# Altium footprint library CYPCBLIB.PcbLib: 185 footprints (part 5 of 12)
Each footprint in its own frame and in the unit in brackets; x right, y up, seen from the top. Pads: shape width x height; smd on the part's side, far side on the other; paste and mask are expansions set on the pad; w line width, h text height; cw(c..) or ccw(c..) is an arc to the next point about the centre after c.
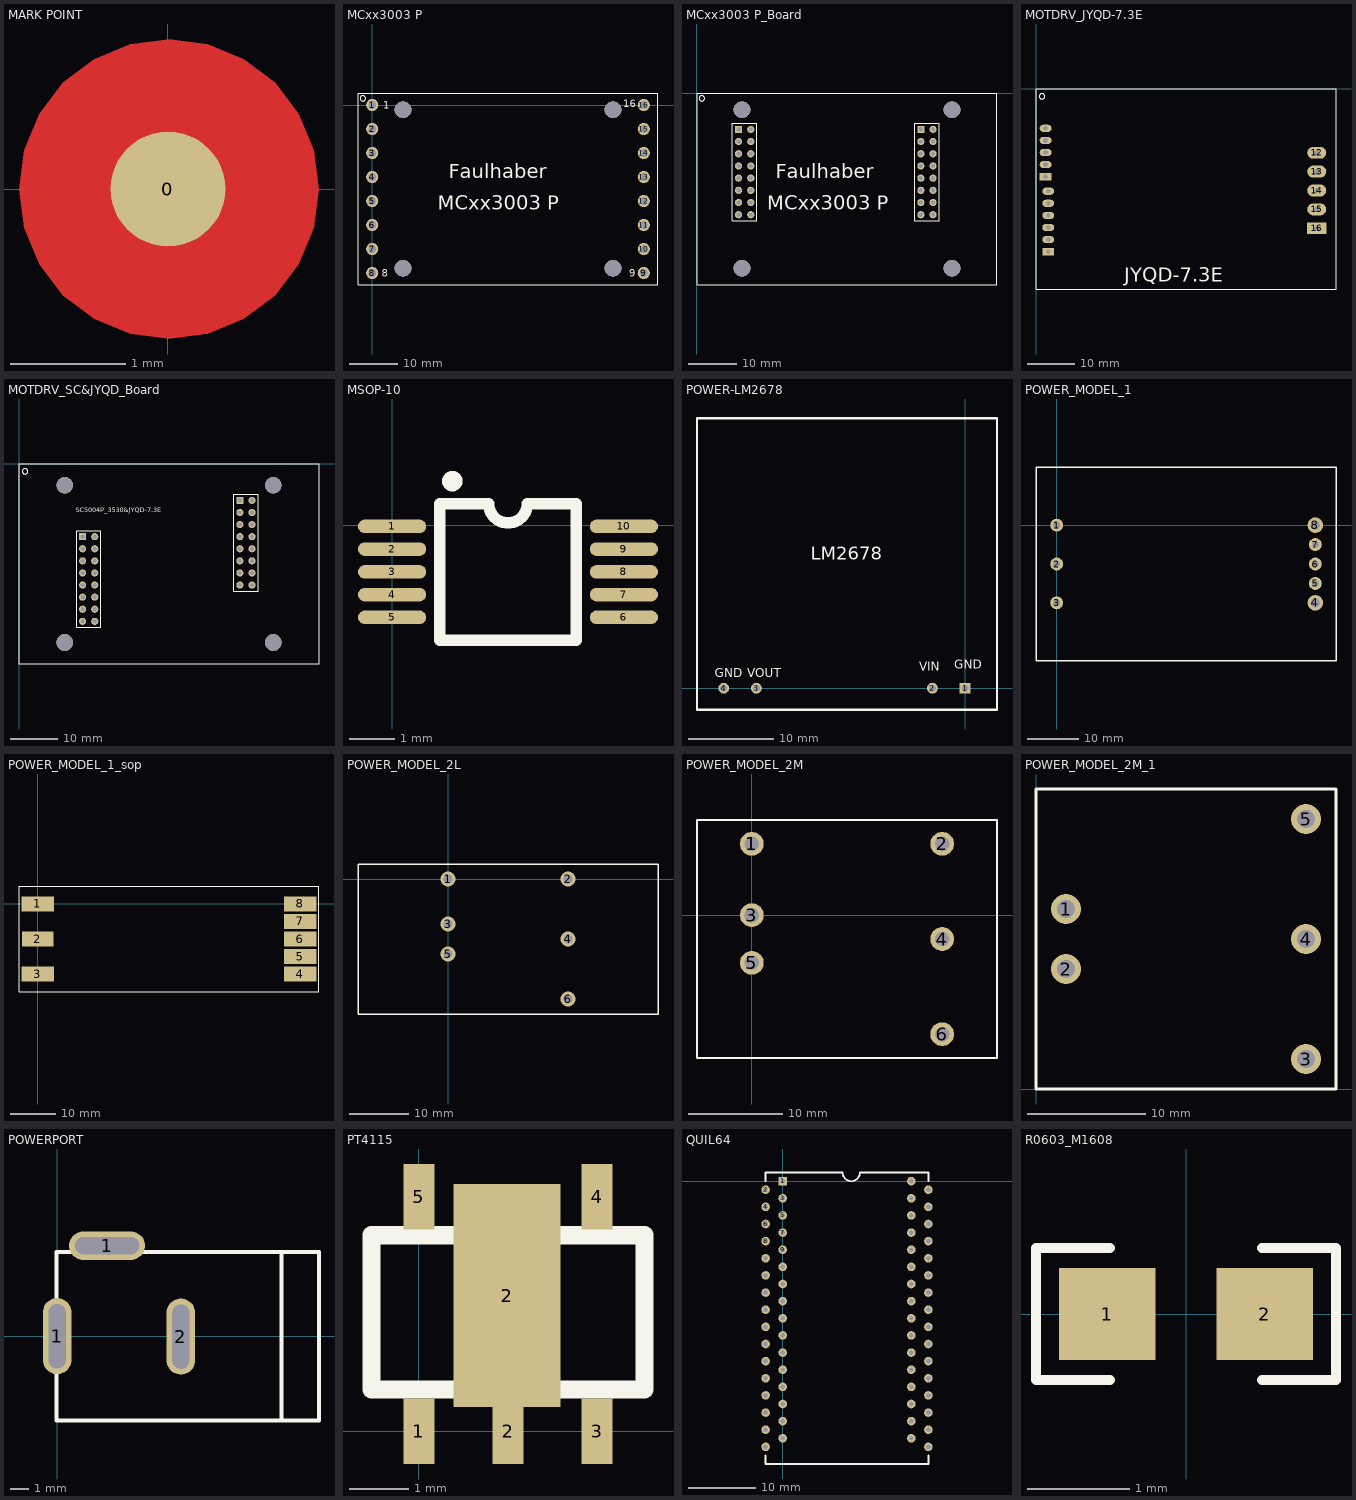
[diagram p4: the footprints below, top view; thin cyan lines are the x and y axes]

## MARK POINT [mm]
pads (1):
  round 1 smd mask+0.7: 0(0,0)
TopLayer:
  pour cut-out: 0.009,-1.304 -0.329,-1.26 -0.643,-1.13 -0.913,-0.922 -1.121,-0.652 -1.251,-0.338 -1.295,0 -1.251,0.338 -1.121,0.652 -0.913,0.922 -0.643,1.13 -0.329,1.26 0.009,1.304 0.346,1.26 0.661,1.13 0.931,0.922 1.138,0.652 1.269,0.338 1.313,0 1.269,-0.338 1.138,-0.652 0.931,-0.922 0.661,-1.13 0.346,-1.26

## MCxx3003 P [mm]
pads (16):
  round 2.54 hole 1.6: 1(0,0) 2(0,-5) 3(0,-10) 4(0,-15) 5(0,-20) 6(0,-25) 7(0,-30) 8(0,-35) 9(56.6,-35) 10(56.6,-30) 11(56.6,-25) 12(56.6,-20) 13(56.6,-15) 14(56.6,-10) 15(56.6,-5) 16(56.6,0)
via 6.4,-1 diameter 3.5 hole 3.5
via 6.4,-34 diameter 3.5 hole 3.5
via 50.2,-34 diameter 3.5 hole 3.5
via 50.2,-1 diameter 3.5 hole 3.5
TopOverlay:
  circle w0.254: c-1.934,1.384 r0.568
  lines w0.254: -2.95,-37.4 59.55,-37.4 59.55,2.4 -2.95,2.4 -2.95,-37.4
  text "Faulhaber" at 16.002,-15.24 h3
  text "MCxx3003 P" at 13.716,-21.844 h3
  text "8" at 2.032,-35.814 h1.5
  text "1" at 2.286,-0.762 h1.5
  text "16" at 52.324,-0.508 h1.5
  text "9" at 53.594,-35.814 h1.5
BottomOverlay:
  circle w0.254: c-1.934,1.384 r0.568

## MCxx3003 P_Board [mm]
pads (32):
  rect 1.5x1.5 hole 0.9: 1(8.666,-7.477) 17(46.639,-7.477)
  round 1.5 hole 0.9: 2(11.206,-7.477) 3(8.666,-10.017) 4(11.206,-10.017) 5(8.666,-12.557) 6(11.206,-12.557) 7(8.666,-15.097) 8(11.206,-15.097) 9(8.666,-17.637) 10(11.206,-17.637) 11(8.666,-20.177) 12(11.206,-20.177) 13(8.666,-22.717) 14(11.206,-22.717) 15(8.666,-25.257) 16(11.206,-25.257) 18(49.179,-7.477) 19(46.639,-10.017) 20(49.179,-10.017) 21(46.639,-12.557) 22(49.179,-12.557) 23(46.639,-15.097) 24(49.179,-15.097) 25(46.639,-17.637) 26(49.179,-17.637) 27(46.639,-20.177) 28(49.179,-20.177) 29(46.639,-22.717) 30(49.179,-22.717) 31(46.639,-25.257) 32(49.179,-25.257)
via 9.351,-3.397 diameter 3.5 hole 3.5
via 9.351,-36.397 diameter 3.5 hole 3.5
via 53.151,-36.397 diameter 3.5 hole 3.5
via 53.151,-3.397 diameter 3.5 hole 3.5
TopOverlay:
  circle w0.254: c1.016,-1.016 r0.568
  lines w0.2: 7.396,-26.527 12.476,-26.527 12.476,-6.207 7.396,-6.207 7.396,-26.527 ; 45.369,-26.527 50.449,-26.527 50.449,-6.207 45.369,-6.207 45.369,-26.527
  lines w0.254: 0.001,-39.797 0.001,0.003 62.501,0.003 62.501,-39.797 0.001,-39.797
  text "Faulhaber" at 16.413,-17.637 h3
  text "MCxx3003 P" at 14.635,-24.241 h3

## MOTDRV_JYQD-7.3E [mm]
pads (16):
  rect 2.5x1.5 hole 0.991: 1(2.574,-34.163) 7(2.015,-18.415)
  oval 2.5x1.5 hole 0.991: 2(2.574,-31.623) 3(2.574,-29.083) 4(2.574,-26.543) 5(2.574,-24.003) 6(2.574,-21.463) 8(2.015,-15.875) 9(2.015,-13.335) 10(2.015,-10.795) 11(2.015,-8.255)
  oval 4x2.5 hole 1.143: 12(58.962,-13.395) 13(58.962,-17.355) 14(58.962,-21.315) 15(58.962,-25.275)
  rect 4x2.5 hole 1.143: 16(58.962,-29.235)
TopOverlay:
  circle w0.254: c1.266,-1.556 r0.568
  lines w0.254: 63,-0.032 63,-42 0,-42 0,0 63,0
  text "JYQD-7.3E" at 18.525,-40.513 h3
BottomOverlay:
  circle w0.254: c1.266,-1.556 r0.568

## MOTDRV_SC&JYQD_Board [mm]
pads (32):
  rect 1.5x1.5 hole 0.9: 1(13.36,-15.272) 17(46.38,-7.652)
  round 1.5 hole 0.9: 2(15.9,-15.272) 3(13.36,-17.812) 4(15.9,-17.812) 5(13.36,-20.352) 6(15.9,-20.352) 7(13.36,-22.892) 8(15.9,-22.892) 9(13.36,-25.432) 10(15.9,-25.432) 11(13.36,-27.972) 12(15.9,-27.972) 13(13.36,-30.512) 14(15.9,-30.512) 15(13.36,-33.052) 16(15.9,-33.052) 18(48.92,-7.652) 19(46.38,-10.192) 20(48.92,-10.192) 21(46.38,-12.732) 22(48.92,-12.732) 23(46.38,-15.272) 24(48.92,-15.272) 25(46.38,-17.812) 26(48.92,-17.812) 27(46.38,-20.352) 28(48.92,-20.352) 29(46.38,-22.892) 30(48.92,-22.892) 31(46.38,-25.432) 32(48.92,-25.432)
via 9.6,-4.5 diameter 3.5 hole 3.5
via 9.6,-37.5 diameter 3.5 hole 3.5
via 53.4,-37.5 diameter 3.5 hole 3.5
via 53.4,-4.5 diameter 3.5 hole 3.5
TopOverlay:
  circle w0.254: c1.266,-1.556 r0.568
  lines w0.2: 12.09,-34.322 17.17,-34.322 17.17,-14.002 12.09,-14.002 12.09,-34.322 ; 45.11,-26.702 45.11,-6.382 50.19,-6.382 50.19,-26.702 45.11,-26.702
  lines w0.254: 0,-42.02 0,0 63,0 63,-42 0,-42
  text "SC5004P_3530&JYQD-7.3E" at 11.934,-10.192 h1

## MSOP-10 [mm]
pads (10):
  oval 1.5x0.3 smd: 1(0,-0.025) 2(0,-0.525) 3(0,-1.025) 4(0,-1.525) 5(0,-2.025) 6(5.1,-2.025) 7(5.1,-1.525) 8(5.1,-1.025) 9(5.1,-0.525) 10(5.1,-0.025)
TopOverlay:
  circle w0.25: c1.324,0.971 r0.1
  lines w0.254: 1.05,-2.525 4.05,-2.525 4.05,0.475 2.975,0.475 cw(c2.55,0.475) 2.125,0.475 1.05,0.475 1.05,-2.525

## POWER-LM2678 [mil]
pads (4):
  rect 50x50 hole 32: 1(0,0)
  round 50 hole 32: 2(-150,0) 3(-958.66,0) 4(-1108.66,0)
TopOverlay:
  lines w10: -1231.34,-98.58 -1231.34,1240 146.61,1240 146.61,-98.58 -1231.34,-98.58
  text "LM2678" at -710,590 h60
  text "GND" at -50,90 h40.31
  text "VIN" at -210,80 h40.31
  text "GND" at -1150,50 h40.31
  text "VOUT" at -1000,50 h40.31

## POWER_MODEL_1 [mil]
pads (8):
  round 100 hole 55: 1(0,0) 2(0,-300) 3(0,-600) 5(2000,-450) 6(2000,-300) 7(2000,-150)
  round 120 hole 75: 4(2000,-600) 8(2000,0)
TopOverlay:
  lines w10: -160,-1050 -160,450 2160,450 2160,-1050 -160,-1050

## POWER_MODEL_1_sop [mil]
pads (8):
  rect 280x130 smd: 1(0,0) 3(0,-600) 4(2250,-600) 5(2250,-450) 6(2250,-300) 7(2250,-150) 8(2250,0)
  rect 270x130 smd: 2(0,-300)
TopOverlay:
  lines w10: -160,-750 -160,150 2410,150 2410,-750 -160,-750

## POWER_MODEL_2L [mil]
pads (6):
  round 100 hole 60: 1(0,0) 2(800,0) 3(0,-300) 4(800,-400) 5(0,-500) 6(800,-800)
TopOverlay:
  lines w10: -600,-900 1400,-900 1400,100 -600,100 -600,-900

## POWER_MODEL_2M [mil]
pads (6):
  round 100 hole 60: 1(0,300) 2(800,300) 3(0,0) 4(800,-100) 5(0,-200) 6(800,-500)
TopOverlay:
  lines w10: -230,-600 1030,-600 1030,400 -230,400 -230,-600

## POWER_MODEL_2M_1 [mil]
pads (5):
  round 100 hole 60: 1(100,600) 2(100,400) 3(900,100) 4(900,500) 5(900,900)
TopOverlay:
  lines w10: 0,0 0,1000 1000,1000 1000,0 0,0

## POWERPORT [mil]
pads (3):
  oval 60x160 hole 36 slot 135 at 90 deg: 1(0,0) 2(260,-1)
  oval 160x60 hole 36 slot 135 at 0 deg: 1(105,190)
TopOverlay:
  lines w8: 471,-177 471,177 ; -1,-177 550,-177 550,177 -1,177 -1,-177

## PT4115 [mm]
pads (6):
  rect 0.524x1.1 smd: 1(0,0) 2(1.5,0) 3(3,0) 4(3,3.952) 5(0,3.952)
  rect 1.8x3.75 smd: 2(1.486,2.286)
TopOverlay:
  lines w0.305: -0.8,0.702 -0.8,3.302 3.8,3.302 3.8,0.702 -0.8,0.702

## QUIL64 [mil]
pads (64):
  rect 50x50 hole 28: 1(0,0)
  round 50 hole 28: 2(-100,-50) 3(0,-100) 4(-100,-150) 5(0,-200) 6(-100,-250) 7(0,-300) 8(-100,-350) 9(0,-400) 10(-100,-450) 11(0,-500) 12(-100,-550) 13(0,-600) 14(-100,-650) 15(0,-700) 16(-100,-750) 17(0,-800) 18(-100,-850) 19(0,-900) 20(-100,-950) 21(0,-1000) 22(-100,-1050) 23(0,-1100) 24(-100,-1150) 25(0,-1200) 26(-100,-1250) 27(0,-1300) 28(-100,-1350) 29(0,-1400) 30(-100,-1450) 31(0,-1500) 32(-100,-1550) 33(850,-1550) 34(750,-1500) 35(850,-1450) 36(750,-1400) 37(850,-1350) 38(750,-1300) 39(850,-1250) 40(750,-1200) 41(850,-1150) 42(750,-1100) 43(850,-1050) 44(750,-1000) 45(850,-950) 46(750,-900) 47(850,-850) 48(750,-800) 49(850,-750) 50(750,-700) 51(850,-650) 52(750,-600) 53(850,-550) 54(750,-500) 55(850,-450) 56(750,-400) 57(850,-350) 58(750,-300) 59(850,-250) 60(750,-200) 61(850,-150) 62(750,-100) 63(850,-50) 64(750,0)
TopOverlay:
  lines w10: 350,50 ccw(c400,50) 450,50
  lines w12: -100,-1600 -100,-1650 850,-1650 850,-1600 ; -100,0 -100,50 350,50 ; 450,50 850,50 850,0

## R0603_M1608 [mm] "Chip Capacitor, 2-Leads, Body 1.6x0.8mm, IPC Medium Density"
height 0.55
pads (2):
  rect 0.95x0.9 smd: 1(-0.775,0) 2(0.775,0)
TopOverlay:
  lines w0.1: -0.75,-0.65 -1.475,-0.65 -1.475,0.65 -0.75,0.65 ; 0.75,-0.65 1.475,-0.65 1.475,0.65 0.75,0.65